# EAGLE library part 12-PIN-HEADER-SMT (library Nick Firmani)
12 Pin Male Header Jack Sullins Corp G_C__S__N-M89 Series
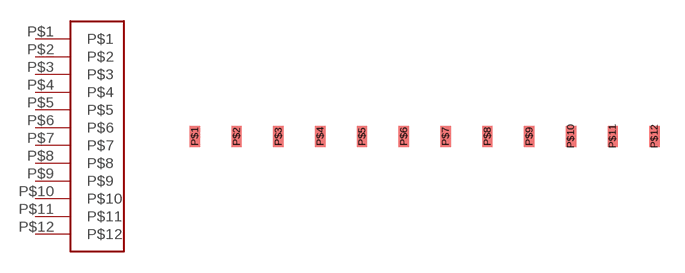
[diagram p3: symbol with the pads of GCC12SBSN-M89; footprint GCC12SBSN-M89]

Designator prefix -

## 12-PIN-HEADER-SMT  [GCC12SBSN-M89]
P$1  P$1
P$2  P$2
P$3  P$3
P$4  P$4
P$5  P$5
P$6  P$6
P$7  P$7
P$8  P$8
P$9  P$9
P$10  P$10
P$11  P$11
P$12  P$12

## Footprint GCC12SBSN-M89 (pad centres in mm)
smd 0.635 x 1.27: P$1 0,0; P$2 2.54,0; P$3 5.08,0; P$4 7.62,0; P$5 10.16,0; P$6 12.7,0; P$7 15.24,0; P$8 17.78,0; P$9 20.32,0; P$10 22.86,0; P$11 25.4,0; P$12 27.94,0